# EAGLE library part USB4085-GF-A (library USB4085-GF-A)
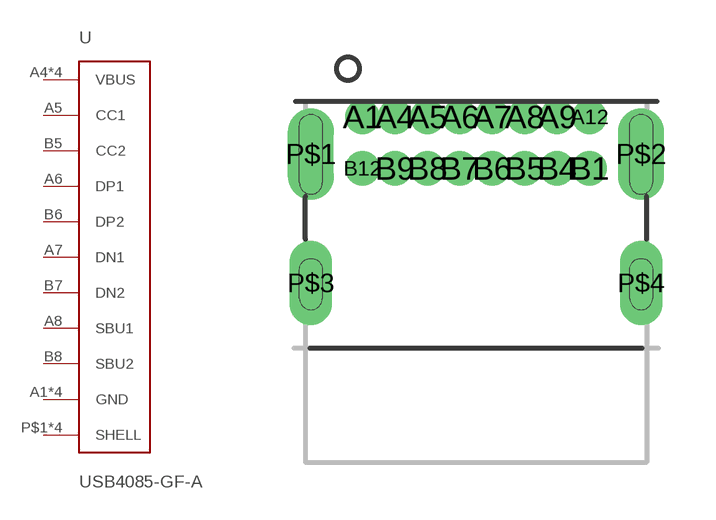
[diagram p0: symbol with the pads of USB4085-GF-A; footprint USB4085-GF-A]

Designator prefix -

## USB4085-GF-A  [USB4085-GF-A]
A1  GND  pwr
A4  VBUS  pwr
A5  CC1
A6  DP1
A7  DN1
A8  SBU1
A9  VBUS  pwr
A12  GND  pwr
B1  GND  pwr
B4  VBUS  pwr
B5  CC2
B6  DP2
B7  DN2
B8  SBU2
B9  VBUS  pwr
B12  GND  pwr
P$1  SHELL  pwr
P$2  SHELL  pwr
P$3  SHELL  pwr
P$4  SHELL  pwr

## Footprint USB4085-GF-A (pad centres in mm)
drill 0.4 pad 0.65: A1 -2.975,4.325; A4 -2.125,4.325; A5 -1.275,4.325; A6 -0.425,4.325; A7 0.425,4.325; A8 1.275,4.325; A9 2.125,4.325; A12 2.975,4.325; B1 2.975,2.975; B4 2.125,2.975; B5 1.275,2.975; B6 0.425,2.975; B7 -0.425,2.975; B8 -1.275,2.975; B9 -2.125,2.975; B12 -2.975,2.975
drill 0.6 pad 1.2 long: P$1 -4.325,3.345; P$2 4.325,3.345
drill 0.6 pad 0.85 long: P$3 -4.325,-0.035; P$4 4.325,-0.035